# EAGLE library part ADUM2402 (library EIT_Recorder)
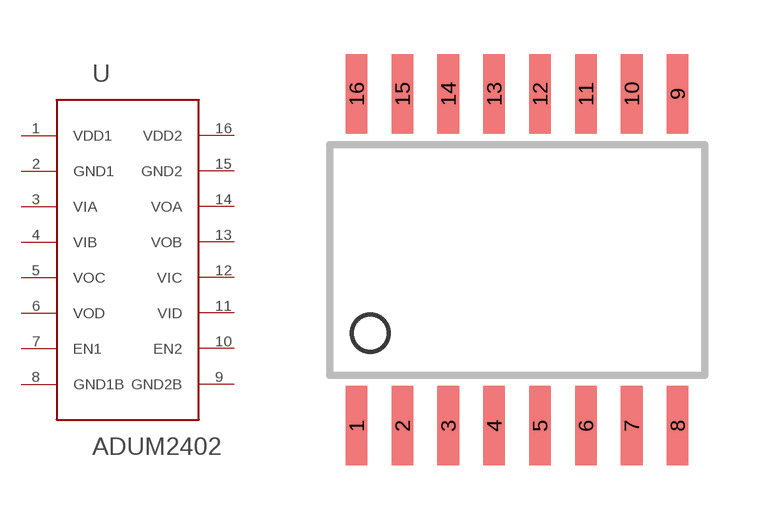
[diagram p8: symbol with the pads of SO16W_CUSTOM; footprint SO16W_CUSTOM]

Designator prefix -

## ADUM2402  [SO16W_CUSTOM]
1  VDD1  pwr
2  GND1  pwr
3  VIA  in
4  VIB  in
5  VOC  out
6  VOD  out
7  EN1  in
8  GND1B  pwr
9  GND2B  pwr
10  EN2
11  VID  in
12  VIC  in
13  VOB  out
14  VOA  out
15  GND2  pwr
16  VDD2  pwr

## Footprint SO16W_CUSTOM (pad centres in mm)
SMALL OUTLINE INTEGRATED CIRCUIT wide body 7.5 mm/JEDEC MS-013AA
smd 0.6 x 2.2: 1 -4.445,-4.6; 2 -3.175,-4.6; 3 -1.905,-4.6; 4 -0.635,-4.6; 5 0.635,-4.6; 6 1.905,-4.6; 7 3.175,-4.6; 8 4.445,-4.6; 9 4.445,4.6; 10 3.175,4.6; 11 1.905,4.6; 12 0.635,4.6; 13 -0.635,4.6; 14 -1.905,4.6; 15 -3.175,4.6; 16 -4.445,4.6